# Altium footprint library 0603_RES.PcbLib: 5 footprints
Each footprint in its own frame and in the unit in brackets; x right, y up, seen from the top. Pads: shape width x height; smd on the part's side, far side on the other; paste and mask are expansions set on the pad; w line width, h text height; cw(c..) or ccw(c..) is an arc to the next point about the centre after c.
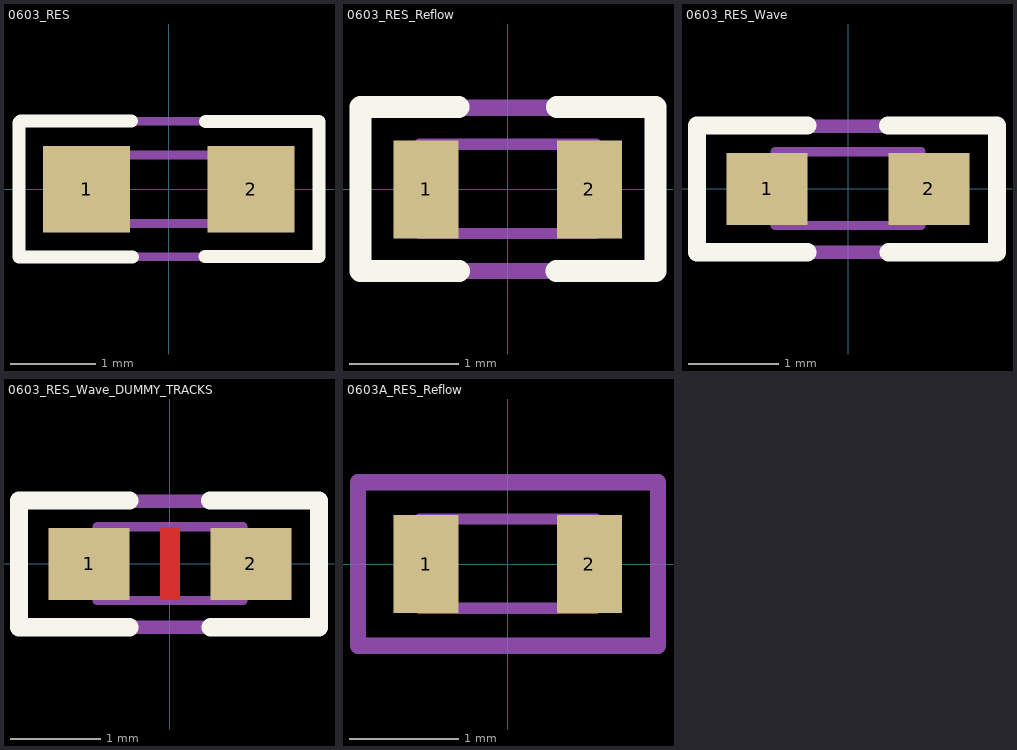
[diagram p0: the footprints below, top view; thin cyan lines are the x and y axes]

## 0603_RES [mil]
pads (2):
  rect 40x40 smd: 1(-37.89,0) 2(37.89,0)
Top Overlay:
  lines w6: -68.99,-31.03 -68.99,30.75 ; -68.9,-31.13 -16.76,-31.13 ; -68.36,31.38 -17.13,31.38 ; 16.59,-30.98 69.1,-30.98 69.1,31.22 16.97,31.22
Top Component Outline:
  lines w4: -31.49,-15.74 31.5,-15.74 31.5,15.75 -31.49,15.75 -31.49,-15.74
Top Assembly:
  lines w3.94: -68.9,-31.13 69.1,-31.13 69.1,31.38 -68.9,31.38 -68.9,-31.13
  text ".Designator" at -59.06,-8.02 h39.37
3D body "User Library-RES_1609-0603.step": height 22.05, standoff 0, extent -33.46,-16.73 33.47,14.77

## 0603_RES_Reflow [mm]
pads (2):
  rect 0.6x0.9 smd paste-0.05: 1(-0.75,0) 2(0.75,0)
Top Overlay:
  lines w0.203: -0.451,0.756 -1.352,0.756 -1.352,-0.75 -0.446,-0.75 ; 0.447,-0.75 1.358,-0.75 1.358,0.756 0.452,0.756
Top Component Outline:
  lines w0.102: -0.81,-0.406 0.81,-0.406 0.81,0.414 -0.81,0.414 -0.81,-0.406
Top Assembly:
  lines w0.15: -1.375,-0.75 -1.375,0.75 1.38,0.75 1.38,-0.75 -1.375,-0.75
  text ".Designator" at -0.81,-0.221 h1
3D body "User Library-RES_1609-0603.step": height 0.56, standoff 0, extent -0.85,-0.425 0.85,0.375

## 0603_RES_Wave [mm]
pads (2):
  rect 0.9x0.8 smd paste-0.05: 1(-0.9,0) 2(0.9,0)
Top Overlay:
  lines w0.203: -1.68,-0.706 -1.68,0.705 -0.454,0.705 ; -1.68,-0.705 -0.452,-0.705 ; 0.449,0.705 1.657,0.705 1.657,-0.705 0.452,-0.705
Top Component Outline:
  lines w0.102: -0.81,-0.406 0.81,-0.406 0.81,0.414 -0.81,0.414 -0.81,-0.406
Top Assembly:
  lines w0.15: -1.675,-0.705 -1.675,0.7 1.65,0.7 1.65,-0.705 -1.675,-0.705
  text ".Designator" at -1.3,-0.204 h1
3D body "User Library-RES_1609-0603.step": height 0.56, standoff 0, extent -0.85,-0.425 0.85,0.375

## 0603_RES_Wave_DUMMY_TRACKS [mm]
pads (2):
  rect 0.9x0.8 smd paste-0.05: 1(-0.9,0) 2(0.9,0)
Top Layer:
  rectangle: -0.112,-0.403 0.113,0.403
Top Overlay:
  lines w0.203: -1.68,-0.706 -1.68,0.705 -0.454,0.705 ; -1.68,-0.705 -0.451,-0.705 ; 0.449,0.705 1.658,0.705 1.658,-0.705 0.453,-0.705
Top Component Outline:
  lines w0.102: -0.81,-0.406 0.81,-0.406 0.81,0.414 -0.81,0.414 -0.81,-0.406
Top Assembly:
  lines w0.15: -1.675,-0.705 -1.675,0.7 1.65,0.7 1.65,-0.705 -1.675,-0.705
  text ".Designator" at -0.9,-0.206 h1
3D body "User Library-RES_1609-0603.step": height 0.56, standoff 0, extent -0.851,-0.425 0.849,0.375

## 0603A_RES_Reflow [mm]
pads (2):
  rect 0.6x0.9 smd paste-0.05: 1(-0.75,0) 2(0.75,0)
Top Component Outline:
  lines w0.102: -0.81,-0.406 0.81,-0.406 0.81,0.414 -0.81,0.414 -0.81,-0.406
Top Assembly:
  lines w0.15: -1.375,-0.75 -1.375,0.75 1.38,0.75 1.38,-0.75 -1.375,-0.75
3D body "User Library-RES_1609-0603.step": height 0.56, standoff 0, extent -0.85,-0.425 0.85,0.375